# EAGLE library part 128X64OLED (library ds_displays)
128x64 OLED
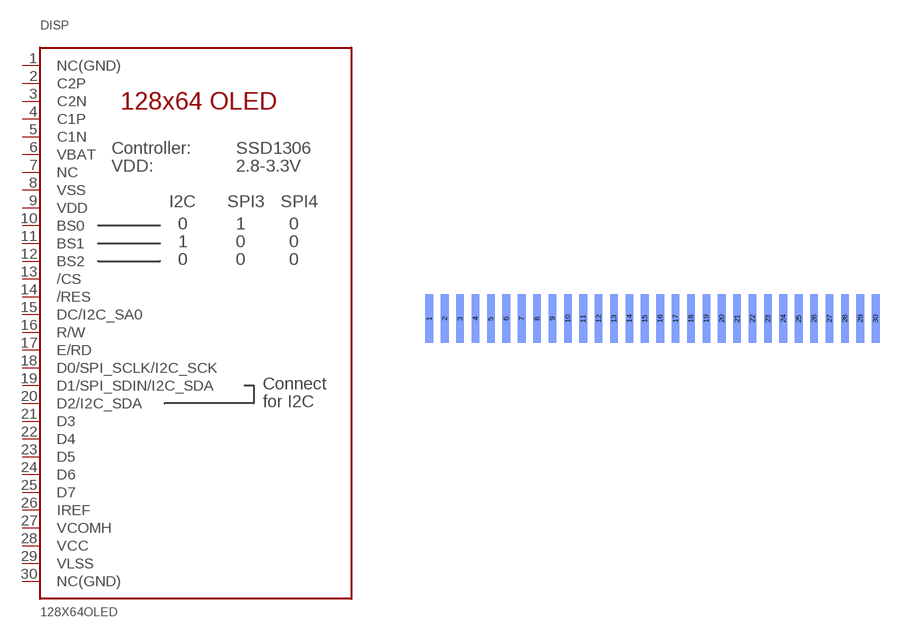
[diagram p5: symbol with the pads of UG2864; footprint UG2864]

Designator prefix DISP

## 128X64OLED  [UG2864]
1  NC(GND)  in
2  C2P  in
3  C2N  in
4  C1P  in
5  C1N  in
6  VBAT  in
7  NC  nc
8  VSS  pwr
9  VDD  pwr
10  BS0  in
11  BS1  in
12  BS2  in
13  /CS  in
14  /RES  in
15  DC/I2C_SA0  in
16  R/W  in
17  E/RD  in
18  D0/SPI_SCLK/I2C_SCK
19  D1/SPI_SDIN/I2C_SDA
20  D2/I2C_SDA
21  D3
22  D4
23  D5
24  D6
25  D7
26  IREF  in
27  VCOMH  out
28  VCC  pwr
29  VLSS  pwr
30  NC(GND)  in

## Footprint UG2864 (pad centres in mm)
smd 0.35 x 2.2 bottom: 1 -10.15,-6.28; 2 -9.45,-6.28; 3 -8.75,-6.28; 4 -8.05,-6.28; 5 -7.35,-6.28; 6 -6.65,-6.28; 7 -5.95,-6.28; 8 -5.25,-6.28; 9 -4.55,-6.28; 10 -3.85,-6.28; 11 -3.15,-6.28; 12 -2.45,-6.28; 13 -1.75,-6.28; 14 -1.05,-6.28; 15 -0.35,-6.28; 16 0.35,-6.28; 17 1.05,-6.28; 18 1.75,-6.28; 19 2.45,-6.28; 20 3.15,-6.28; 21 3.85,-6.28; 22 4.55,-6.28; 23 5.25,-6.28; 24 5.95,-6.28; 25 6.65,-6.28; 26 7.35,-6.28; 27 8.05,-6.28; 28 8.75,-6.28; 29 9.45,-6.28; 30 10.15,-6.28